# Altium integrated library TI Interface Peripheral Driver.IntLib: 66 symbols (part 2 of 2)
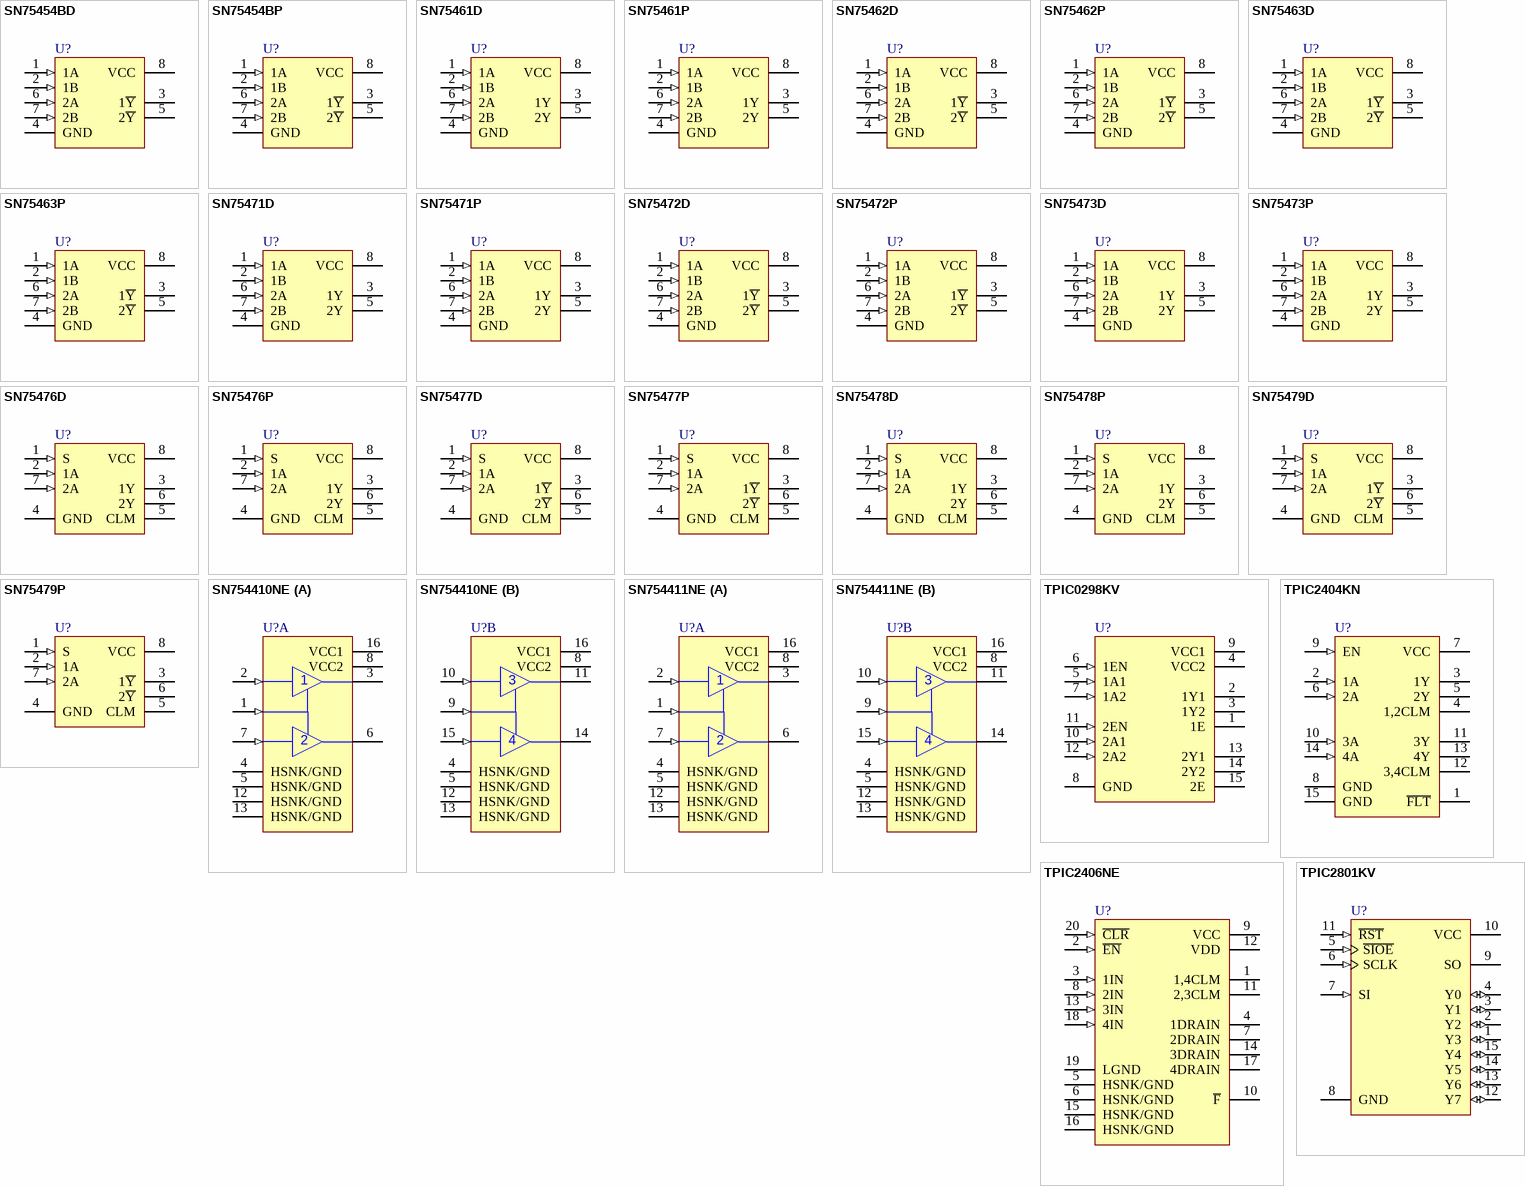
[diagram p2: symbols SN75454BD to TPIC2801KV]

## SN75478P
designator U?
Dual Peripheral Driver; Published: 15-May-2002; LatestRevisionDate: 29-May-2009; LatestRevisionNote: Component Body Added.; DatasheetVersion: Dec-1989; PackageVersion: Jun-1999; PackageReference: P008; Publisher: Altium Limited; PackageDescription: DIP, 8-Pin, Row Spacing 7.62 mm, Pitch 2.54 mm; Code_JEDEC: MO-001-AN; ComponentLink1Description: Manufacturer Link; ComponentLink1URL: http://www.ti.com/; ComponentLink2Description: Datasheet; ComponentLink2URL: http://www-s.ti.com/sc/ds/sn75476.pdf
footprint P008 (DIP, 8-Leads, Row Spacing 7.62mm, Pitch 2.54mm, Body 9.81x6.35mm)
3D model P008 (DIP, 8-Pin, Row Spacing 7.62 mm, Pitch 2.54 mm)
pins: 1 S (in), 2 1A (in), 3 1Y (oc), 4 GND (power), 5 CLM, 6 2Y (oc), 7 2A (in), 8 VCC (power)

## SN75479D
designator U?
Dual Peripheral Driver; Published: 15-May-2002; LatestRevisionDate: 13-Apr-2006; LatestRevisionNote: IPC-7351 Footprint Added.; DatasheetVersion: Dec-1989; PackageVersion: Nov-2006; PackageReference: D008; Publisher: Altium Limited; PackageDescription: 8-Pin Small Outline Integrated Circuit 1.27 mm Pitch; Code_JEDEC: MS-012-AA; Code_IPC: SOIC127P600-8; ComponentLink1Description: Manufacturer Link; ComponentLink1URL: http://www.ti.com/
footprint D008_N (SOIC, 8-Leads, Body 4.9x3.9mm, Pitch 1.27mm, IPC Medium Density)
footprint D008_L (SOIC, 8-Leads, Body 4.9x3.9mm, Pitch 1.27mm, IPC High Density)
footprint D008_M (SOIC, 8-Leads, Body 4.9x3.9mm, Pitch 1.27mm, IPC Low Density)
3D model D008 (8-Pin Small Outline Integrated Circuit 1.27 mm Pitch)
pins: 1 S (in), 2 1A (in), 3 1~{Y} (oc), 4 GND (power), 5 CLM, 6 2~{Y} (oc), 7 2A (in), 8 VCC (power)

## SN75479P
designator U?
Dual Peripheral Driver; Published: 15-May-2002; LatestRevisionDate: 29-May-2009; LatestRevisionNote: Component Body Added.; DatasheetVersion: Dec-1989; PackageVersion: Jun-1999; PackageReference: P008; Publisher: Altium Limited; PackageDescription: DIP, 8-Pin, Row Spacing 7.62 mm, Pitch 2.54 mm; Code_JEDEC: MO-001-AN; ComponentLink1Description: Manufacturer Link; ComponentLink1URL: http://www.ti.com/
footprint P008 (DIP, 8-Leads, Row Spacing 7.62mm, Pitch 2.54mm, Body 9.81x6.35mm)
3D model P008 (DIP, 8-Pin, Row Spacing 7.62 mm, Pitch 2.54 mm)
pins: 1 S (in), 2 1A (in), 3 1~{Y} (oc), 4 GND (power), 5 CLM, 6 2~{Y} (oc), 7 2A (in), 8 VCC (power)

## SN754410NE
designator U?
Quadruple Half-H Driver; Published: 15-May-2002; LatestRevisionDate: 29-May-2009; LatestRevisionNote: Component Body Added.; DatasheetVersion: May-1990; PackageVersion: 1991; PackageReference: NE016; Publisher: Altium Limited; PackageDescription: DIP, 16-Pin, Row Spacing 7.62 mm, Pitch 2.54 mm; Code_JEDEC: MS-001-BB; ComponentLink1Description: Manufacturer Link; ComponentLink1URL: http://www.ti.com/; ComponentLink2Description: Datasheet; ComponentLink2URL: http://www-s.ti.com/sc/ds/sn754410.pdf
footprint NE016 (DIP, 16-Leads, Row Spacing 7.62mm, Pitch 2.54mm, Body 19.4x6.35mm)
3D model NE016 (DIP, 16-Pin, Row Spacing 7.62 mm, Pitch 2.54 mm)
pins on every part: 4 HSNK/GND (power), 5 HSNK/GND (power), 8 VCC2 (power), 12 HSNK/GND (power), 13 HSNK/GND (power), 16 VCC1 (power)
part A pins: 1 1,2EN (in), 2 1A (in), 3 1Y (hiz), 6 2Y (hiz), 7 2A (in)
part B pins: 9 3,4EN (in), 10 3A (in), 11 3Y (hiz), 14 4Y (hiz), 15 4A (in)

## SN754411NE
designator U?
Quadruple Half-H Driver; Published: 15-May-2002; LatestRevisionDate: 29-May-2009; LatestRevisionNote: Component Body Added.; DatasheetVersion: May-1990; PackageVersion: 1991; PackageReference: NE016; Publisher: Altium Limited; PackageDescription: DIP, 16-Pin, Row Spacing 7.62 mm, Pitch 2.54 mm; Code_JEDEC: MS-001-BB; ComponentLink1Description: Manufacturer Link; ComponentLink1URL: http://www.ti.com/
footprint NE016 (DIP, 16-Leads, Row Spacing 7.62mm, Pitch 2.54mm, Body 19.4x6.35mm)
3D model NE016 (DIP, 16-Pin, Row Spacing 7.62 mm, Pitch 2.54 mm)
pins on every part: 4 HSNK/GND (power), 5 HSNK/GND (power), 8 VCC2 (power), 12 HSNK/GND (power), 13 HSNK/GND (power), 16 VCC1 (power)
part A pins: 1 1,2EN (in), 2 1A (in), 3 1Y (hiz), 6 2Y (hiz), 7 2A (in)
part B pins: 9 3,4EN (in), 10 3A (in), 11 3Y (hiz), 14 4Y (hiz), 15 4A (in)

## TPIC0298KV
designator U?
Dual Full-H Driver; Note: The tab is elec is connected to GND pin; ComponentAvailability: Obsolete; Published: 15-May-2002; DatasheetVersion: Jan-1990; PackageReference: KV015; Publisher: Altium Limited; PackageDescription: TO, Thru-Hole, Vertical, Heatsink Mounted; 15 Bent Staggered Leads; Pitch 1.27 mm; ComponentLink1Description: Manufacturer Link; ComponentLink1URL: http://www.ti.com/; ComponentLink2Description: Datasheet; ComponentLink2URL: http://www-s.ti.com/sc/ds/tpic0298.pdf; ComponentLink3Description: URL Link1; ComponentLink3URL: http://focus.ti.com/docs/prod/folders/print/tpic0298.html
footprint KV015 (TO, Thru-Hole, Vertical, Heatsink Mounted; 15 Bent Staggered Leads; Pitch 1.27 mm)
pins: 1 1E, 2 1Y1 (hiz), 3 1Y2 (hiz), 4 VCC2 (power), 5 1A1 (in), 6 1EN (in), 7 1A2 (in), 8 GND (power), 9 VCC1 (power), 10 2A1 (in), 11 2EN (in), 12 2A2 (in), 13 2Y1 (hiz), 14 2Y2 (hiz), 15 2E

## TPIC2404KN
designator U?
Intelligent-Power Quad Low-Side Switch; Note: The tab is elec is connected to GND pin; ComponentAvailability: Obsolete; Published: 15-May-2002; DatasheetVersion: Nov-1989; PackageReference: KN015; Publisher: Altium Limited; PackageDescription: TO, Thru-Hole, Vertical, Heatsink Mounted; 15 Bent Staggered Leads; Pitch 1.27 mm; ComponentLink1Description: Manufacturer Link; ComponentLink1URL: http://www.ti.com/; ComponentLink2Description: Datasheet; ComponentLink2URL: http://www-s.ti.com/sc/ds/tpic2404.pdf; ComponentLink3Description: URL Link1; ComponentLink3URL: http://focus.ti.com/docs/prod/folders/print/tpic2404.html
footprint KN015 (TO, Thru-Hole, Vertical, Heatsink Mounted; 15 Bent Staggered Leads; Pitch 1.27 mm)
pins: 1 ~{FLT} (oc), 2 1A (in), 3 1Y (oc), 4 1,2CLM, 5 2Y (oc), 6 2A (in), 7 VCC (power), 8 GND (power), 9 EN (in), 10 3A (in), 11 3Y (oc), 12 3,4CLM, 13 4Y (oc), 14 4A (in), 15 GND (power)

## TPIC2406NE
designator U?
Intelligent-Power Quad Mosfet Latch; ComponentAvailability: Obsolete; Published: 15-May-2002; LatestRevisionDate: 29-May-2009; LatestRevisionNote: Component Body Added.; DatasheetVersion: Feb-1990; PackageVersion: Oct-1994; PackageReference: NE020; Publisher: Altium Limited; PackageDescription: DIP, 20-Pin, Row Spacing 7.62 mm, Pitch 2.54 mm; Code_JEDEC: MS-015-AE; ComponentLink1Description: Manufacturer Link; ComponentLink1URL: http://www.ti.com/; ComponentLink2Description: Datasheet; ComponentLink2URL: http://www-s.ti.com/sc/ds/tpic2406.pdf; ComponentLink3Description: URL Link1; ComponentLink3URL: http://focus.ti.com/docs/prod/folders/print/tpic2406.html
footprint NE020 (DIP, 20-Leads, Row Spacing 7.62mm, Pitch 2.54mm, Body 24.51x6.86mm)
3D model NE020 (DIP, 20-Pin, Row Spacing 7.62 mm, Pitch 2.54 mm)
pins: 1 1,4CLM, 2 ~{EN} (in), 3 1IN (in), 4 1DRAIN (oc), 5 HSNK/GND (power), 6 HSNK/GND (power), 7 2DRAIN (oc), 8 2IN (in), 9 VCC (power), 10 ~{F} (oc), 11 2,3CLM, 12 VDD (power), 13 3IN (in), 14 3DRAIN (oc), 15 HSNK/GND (power), 16 HSNK/GND (power), 17 4DRAIN (oc), 18 4IN (in), 19 LGND (power), 20 ~{CLR} (in)

## TPIC2801KV
designator U?
Octal Intelligent-Power Switch with Serial Input; Note: The tab is elec is connected to GND pin; ComponentAvailability: Obsolete; Published: 15-May-2002; DatasheetVersion: Jun-1990; PackageReference: KV015; Publisher: Altium Limited; PackageDescription: TO, Thru-Hole, Vertical, Heatsink Mounted; 15 Bent Staggered Leads; Pitch 1.27 mm; ComponentLink1Description: Manufacturer Link; ComponentLink1URL: http://www.ti.com/; ComponentLink2Description: Datasheet; ComponentLink2URL: http://www-s.ti.com/sc/ds/tpic2801.pdf; ComponentLink3Description: URL Link1; ComponentLink3URL: http://focus.ti.com/docs/prod/folders/print/tpic2801.html
footprint KV015 (TO, Thru-Hole, Vertical, Heatsink Mounted; 15 Bent Staggered Leads; Pitch 1.27 mm)
pins: 1 Y3 (io), 2 Y2 (io), 3 Y1 (io), 4 Y0 (io), 5 ~{SIOE} (in), 6 SCLK (in), 7 SI (in), 8 GND (power), 9 SO (hiz), 10 VCC (power), 11 ~{RST} (in), 12 Y7 (io), 13 Y6 (io), 14 Y5 (io), 15 Y4 (io)